# EAGLE library part A4988 (library Nick's Personal Part)
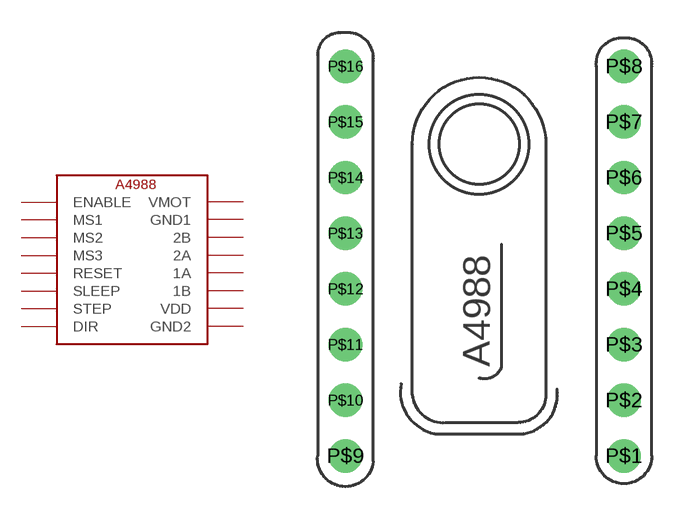
[diagram p4: symbol with the pads of A4988; footprint A4988]

Designator prefix -

## A4988  [A4988]
P$1  GND2
P$2  VDD
P$3  1B
P$4  1A
P$5  2A
P$6  2B
P$7  GND1
P$8  VMOT
P$9  DIR
P$10  STEP
P$11  SLEEP
P$12  RESET
P$13  MS3
P$14  MS2
P$15  MS1
P$16  ENABLE

## Footprint A4988 (pad centres in mm)
drill 1.016: P$1 6.604,-8.128; P$2 6.604,-5.588; P$3 6.604,-3.048; P$4 6.604,-0.508; P$5 6.604,2.032; P$6 6.604,4.572; P$7 6.604,7.112; P$8 6.604,9.652; P$9 -6.096,-8.128; P$10 -6.096,-5.588; P$11 -6.096,-3.048; P$12 -6.096,-0.508; P$13 -6.096,2.032; P$14 -6.096,4.572; P$15 -6.096,7.112; P$16 -6.096,9.652